# Altium footprint library Antennas.PcbLib: 43 footprints (part 3 of 3)
Each footprint in its own frame and in the unit in brackets; x right, y up, seen from the top. Pads: shape width x height; smd on the part's side, far side on the other; paste and mask are expansions set on the pad; w line width, h text height; cw(c..) or ccw(c..) is an arc to the next point about the centre after c.
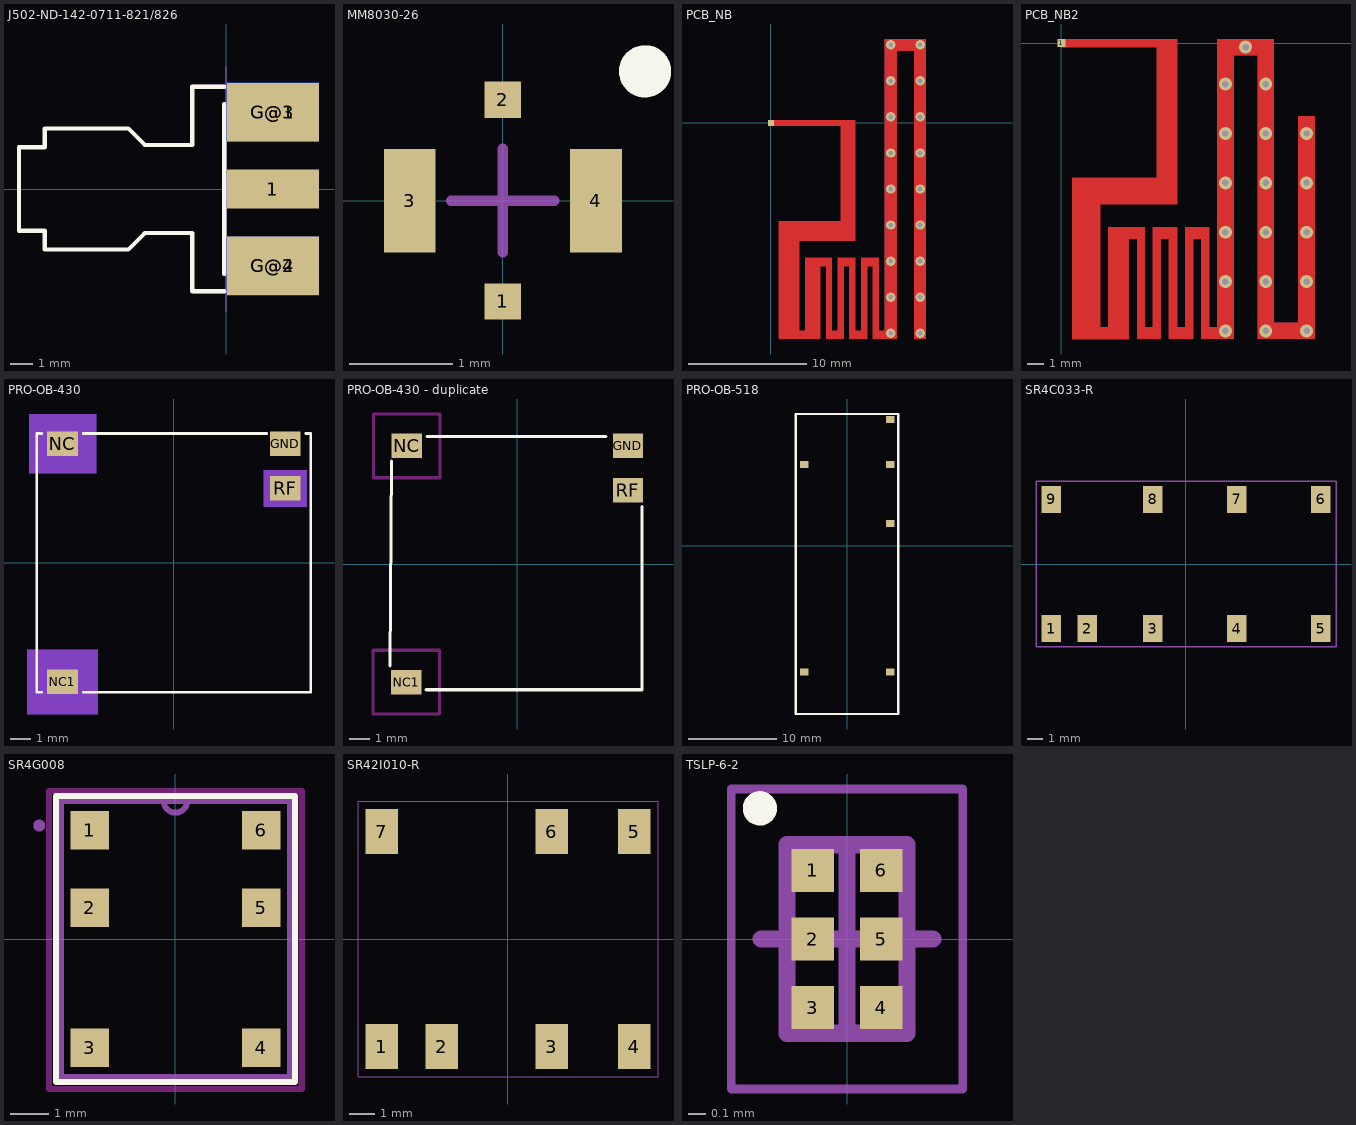
[diagram p2: the footprints below, top view; thin cyan lines are the x and y axes]

## J502-ND-142-0711-821/826 [mil]
pads (5):
  rect 165x70 smd: 1(83.28,0)
  rect 165x105 smd: G@1(83.28,137.58) G@2(83.28,-137.58)
  rect 165x105 smd far side: G@3(83.28,137.58) G@4(83.28,-137.58)
Top Overlay:
  lines w8: -3.94,-183.07 -61.02,-183.07 -61.02,-78.74 -145.67,-78.74 -175.2,-108.27 -324.8,-108.27 -324.8,-74.8 -371.06,-74.8 -371.06,74.8 -324.8,74.8 -324.8,108.27 -175.2,108.27 -145.67,78.74 -61.02,78.74 -61.02,183.07 -3.94,183.07 ; -3.94,-151.57 -3.94,151.57
Mechanical 1:
  lines w0: 0,-220 0,220
Mechanical 16:
  rectangle: -0.98,-19.69 159.45,19.69
  lines w8: -61.02,-183.07 161.42,-183.07 161.42,-151.57 -3.94,-151.57 ; -61.02,183.07 161.42,183.07 161.42,151.57 -3.94,151.57
3D body "User Library-Johnson Components SMA - 50 Ohm Connectors 142-0701-801.step": height 170.51, standoff -141.3, extent -391.91,-187 169.91,187.81

## MM8030-26 [mm]
pads (4):
  rect 0.35x0.35 smd: 1(0,-0.975) 2(0,0.975)
  rect 0.5x1 smd: 3(-0.9,0) 4(0.9,0)
Top Overlay:
  circle w0.254: c1.375,1.25 r0.125
Mechanical 15:
  lines w0.1: -0.5,0 0.5,0 ; 0,-0.5 0,0.5
3D body: height 0.9, standoff 0.01, extent -0.67,-0.674 0.675,0.674
3D body: height 0.45, standoff 0, extent -1,-1 1,1

## PCB_NB [mm]
pads (1):
  rect 0.5x0.5 smd mask+0.102: 1(0,0)
via 10.174,0.514 diameter 0.8 hole 0.4
via 10.178,-2.548 diameter 0.8 hole 0.4
via 10.178,-5.611 diameter 0.8 hole 0.4
via 10.174,-8.673 diameter 0.8 hole 0.4
via 10.178,-11.736 diameter 0.8 hole 0.4
via 10.178,-14.798 diameter 0.8 hole 0.4
via 10.178,-17.861 diameter 0.8 hole 0.4
via 10.174,6.639 diameter 0.8 hole 0.4
via 10.178,3.577 diameter 0.8 hole 0.4
via 12.678,3.577 diameter 0.8 hole 0.4
via 12.674,6.639 diameter 0.8 hole 0.4
via 12.678,-17.861 diameter 0.8 hole 0.4
via 12.678,-14.798 diameter 0.8 hole 0.4
via 12.678,-11.736 diameter 0.8 hole 0.4
via 12.674,-8.673 diameter 0.8 hole 0.4
via 12.678,-5.611 diameter 0.8 hole 0.4
via 12.678,-2.548 diameter 0.8 hole 0.4
via 12.674,0.514 diameter 0.8 hole 0.4
Top Layer:
  region: 0.674,-18.361 4.174,-18.361 4.174,-12.156 4.693,-12.156 4.693,-18.361 6.174,-18.361 6.174,-12.156 6.674,-12.156 6.674,-18.361 8.174,-18.361 8.174,-12.156 8.674,-12.156 8.674,-18.361 10.678,-18.361 10.678,6.139 12.178,6.139 12.178,-18.361 13.178,-18.361 13.178,7.139 9.678,7.139 9.678,-17.64 9.174,-17.64 9.174,-11.435 7.674,-11.435 7.674,-17.64 7.174,-17.64 7.174,-11.435 5.674,-11.435 5.674,-17.64 5.174,-17.64 5.174,-11.435 2.921,-11.435 2.921,-17.64 2.405,-17.64 2.405,-10.015 7.174,-10.015 7.174,0.25 0,0.25 0,-0.25 5.924,-0.25 5.924,-8.361 0.674,-8.361
Bottom Layer:
  region: 9.676,-18.361 10.679,-18.361 10.679,6.139 12.179,6.139 12.179,-18.361 13.179,-18.361 13.179,7.139 9.676,7.139

## PCB_NB2 [mm]
pads (1):
  rect 0.5x0.5 smd mask+0.102: 1(0,0)
via 15.207,-17.861 diameter 0.8 hole 0.4
via 15.207,-14.798 diameter 0.8 hole 0.4
via 15.207,-11.736 diameter 0.8 hole 0.4
via 15.204,-8.673 diameter 0.8 hole 0.4
via 15.207,-5.611 diameter 0.8 hole 0.4
via 12.678,-2.548 diameter 0.8 hole 0.4
via 12.678,-5.611 diameter 0.8 hole 0.4
via 12.674,-8.673 diameter 0.8 hole 0.4
via 12.678,-11.736 diameter 0.8 hole 0.4
via 12.678,-14.798 diameter 0.8 hole 0.4
via 12.678,-17.861 diameter 0.8 hole 0.4
via 11.429,-0.25 diameter 0.8 hole 0.4
via 10.178,-17.861 diameter 0.8 hole 0.4
via 10.178,-14.798 diameter 0.8 hole 0.4
via 10.178,-11.736 diameter 0.8 hole 0.4
via 10.174,-8.673 diameter 0.8 hole 0.4
via 10.178,-5.611 diameter 0.8 hole 0.4
via 10.178,-2.548 diameter 0.8 hole 0.4
Top Layer:
  region: 0.674,-18.361 4.174,-18.361 4.174,-12.156 4.693,-12.156 4.693,-18.361 6.174,-18.361 6.174,-12.156 6.674,-12.156 6.674,-18.361 8.174,-18.361 8.174,-12.156 8.674,-12.156 8.674,-18.361 10.678,-18.361 10.678,-0.762 12.178,-0.762 12.178,-18.361 15.708,-18.361 15.708,-4.557 14.708,-4.557 14.708,-17.348 13.178,-17.348 13.178,0.25 9.678,0.25 9.678,-17.64 9.174,-17.64 9.174,-11.435 7.674,-11.435 7.674,-17.64 7.174,-17.64 7.174,-11.435 5.674,-11.435 5.674,-17.64 5.174,-17.64 5.174,-11.435 2.921,-11.435 2.921,-17.64 2.405,-17.64 2.405,-10.015 7.174,-10.015 7.174,0.25 0,0.25 0,-0.25 5.924,-0.25 5.924,-8.361 0.674,-8.361
Bottom Layer:
  region: 9.676,-18.361 10.679,-18.361 10.679,-0.762 12.179,-0.762 12.179,-18.361 15.708,-18.361 15.708,-4.557 14.707,-4.557 14.707,-17.348 13.179,-17.348 13.179,0.25 9.676,0.25

## PRO-OB-430 [mm] "IC ANTENNA ONBOARD GPS SMD"
pads (4):
  rect 1.5x1.2 smd: GND(5.465,5.85) NC(-5.465,5.85) NC1(-5.465,-5.85) RF(5.465,3.65)
Bottom Layer keep-out:
  region: 4.413,2.751 4.413,4.551 6.523,4.551 6.523,2.751
  region: -7.197,-7.429 -7.197,-4.269 -3.737,-4.269 -3.737,-7.429
  region: -7.107,4.401 -7.107,7.301 -3.807,7.301 -3.807,4.401
Top Overlay:
  lines w0.127: -6.481,-6.358 -6.735,-6.358 -6.735,6.342 -6.481,6.342 ; -4.449,-6.358 6.727,-6.358 6.727,6.342 6.473,6.342 ; -4.449,6.342 4.568,6.342
3D body: height 3.33, standoff 3, extent -6.745,-6.367 6.803,6.383
3D body: height 3.33, standoff 2.5, extent 6.651,-6.367 6.803,2.44
3D body: height 3.33, standoff 2.5, extent -6.735,-6.342 -6.583,6.383
3D body: height 3.33, standoff 1.5, extent 6.651,3.507 6.803,6.314
3D body: height 3.33, standoff 1.5, extent -6.735,-6.342 -6.583,-4.558
3D body: height 3.33, standoff 0, extent -6.735,-6.342 -6.583,-5.44
3D body: height 3.33, standoff 0, extent -6.76,5.456 -6.608,6.358
3D body: height 3.33, standoff 1.5, extent -6.76,4.586 -6.608,6.371
3D body: height 3.33, standoff 0, extent 6.651,5.406 6.803,6.307
3D body: height 3.33, standoff 0, extent 6.651,3.501 6.803,4.402
3D body: height 0.1, standoff 0, extent 5.343,5.437 6.638,6.314
3D body: height 0.1, standoff 0, extent 5.368,3.532 6.663,4.409
3D body: height 0.1, standoff 0, extent -6.595,5.488 -5.3,6.364
3D body: height 0.1, standoff 0, extent -6.57,-6.323 -5.275,-5.447

## PRO-OB-430 - duplicate [mm]
pads (4):
  rect 1.5x1.2 smd: GND(5.478,5.838) NC(-5.452,5.838) NC1(-5.477,-5.837) RF(5.478,3.638)
Top Overlay:
  lines w0.15: -6.275,-5.04 -6.2,5.085 ; -4.5,-6.215 6.18,-6.215 6.18,2.835 ; -4.45,6.31 4.4,6.31
Keep-Out Layer:
  lines w0.15: -7.127,-7.412 -3.827,-7.412 -3.827,-4.263 -7.127,-4.263 -7.127,-7.412 ; -7.102,4.263 -3.802,4.263 -3.802,7.412 -7.102,7.412 -7.102,4.263
3D body "User Library-PRO-OB-430.STEP": height 3.31, standoff 0.01, extent -6.062,-6.312 6.368,6.188

## PRO-OB-518 [mm] "Onboard™ SMD 868/2400 MHz Antenna"
pads (6):
  rect 0.96x0.8 smd: 1(4.864,14.3) 2(4.864,9.2) 3(-4.864,9.2) 4(-4.864,-14.3) 5(4.864,-14.3) 6(4.864,2.5)
Top Overlay:
  lines w0.254: -5.829,-19.065 5.771,-19.065 5.771,14.935 -5.829,14.935 -5.829,-19.065
3D body: height 0.1, standoff 0, extent 4.369,13.81 5.664,14.801
3D body: height 0.1, standoff 0, extent 4.369,8.705 5.664,9.695
3D body: height 0.1, standoff 0, extent 4.369,1.999 5.664,2.99
3D body: height 0.1, standoff 0, extent 4.382,-14.803 5.677,-13.812
3D body: height 0.1, standoff 0, extent -5.791,-14.816 -4.496,-13.825
3D body: height 0.1, standoff 0, extent -5.702,8.717 -4.407,9.708
3D body: height 4.93, standoff 0, extent 5.652,13.797 5.804,14.788
3D body: height 4.93, standoff 0, extent 5.652,8.717 5.804,9.708
3D body: height 4.93, standoff 0, extent 5.652,2.012 5.804,3.002
3D body: height 4.93, standoff 0, extent 5.677,-14.803 5.829,-13.812
3D body: height 4.93, standoff 0, extent -5.931,-14.803 -5.779,-13.812
3D body: height 4.93, standoff 0, extent -5.855,8.717 -5.702,9.708
3D body: height 4.93, standoff 2.5, extent -5.931,-19.096 -5.779,-12.746
3D body: height 4.93, standoff 4.8, extent -5.855,-19.096 5.753,14.864
3D body: height 4.93, standoff 2.5, extent 5.652,-19.172 5.804,14.839
3D body: height 4.93, standoff 2.5, extent -5.88,-10.663 -5.728,14.839

## SR4C033-R [mm]
pads (9):
  rect 1.3x1.8 smd: 1(-9,-4.3) 2(-6.6,-4.3) 3(-2.2,-4.3) 4(3.4,-4.3) 5(9,-4.3) 6(9,4.3) 7(3.4,4.3) 8(-2.2,4.3) 9(-9,4.3)
Mechanical 2:
  lines w0.1: -10,-5.5 10,-5.5 10,5.5 -10,5.5 -10,-5.5
3D body "SR4C033_3D.step": height 1.7, standoff 0.01, extent -9.982,-5.486 10.018,5.514

## SR4G008 [mil]
pads (6):
  rect 39x39 smd: 1(-87,110.24) 2(-87,31.5) 3(-87,-110.24) 4(87,-110.24) 5(87,31.5) 6(87,110.24)
Top Overlay:
  lines w6: -121,-145 121,-145 121,145 -121,145 -121,-145
Keep-Out Layer:
  lines w6.3: -128,-152 128,-152 128,150 -128,150 -128,-152
Mechanical 16:
  lines w6: -12,140 ccw(c0,140) 12,140 ; -12,140 12,140 ; -12,140 -116,140 -116,-140 116,-140 116,140 12,140 ; -141,115 ccw(c-138,115) -135,115 ccw(c-138,115) -141,115
3D body: height 19.68, standoff 3.94, extent -102.61,94.53 -71.24,125.96
3D body "final antenna model.STEP": height 22.91, standoff 0.5, extent -114.17,-137.59 114.17,138

## SR42I010-R [mm] "863-870 & 902-928MHz Right Antenna"
pads (7):
  rect 1.3x1.8 smd: 1(-5.05,-4.3) 2(-2.65,-4.3) 3(1.75,-4.3) 4(5.05,-4.3) 5(5.05,4.3) 6(1.75,4.3) 7(-5.05,4.3)
Mechanical 2:
  lines w0.05: -6,-5.5 -6,5.5 6,5.5 6,-5.5 -6,-5.5
3D body "SR42I010 - Grandis.step": height 1.7, standoff 0.01, extent -5.994,-5.486 6.006,5.514

## TSLP-6-2 [mm] "TSLP 6-Leads, Body 0,70x1,10mm, Pitch 0,40mm, IPC High Density"
height 0.39
pads (6):
  rect 0.25x0.25 smd: 1(-0.2,0.4) 2(-0.2,0) 3(-0.2,-0.4) 4(0.2,-0.4) 5(0.2,0) 6(0.2,0.4)
Top Overlay:
  circle w0.1: c-0.508,0.762 r0.05
Mechanical 13:
  lines w0.1: -0.35,-0.55 -0.35,0.55 0.35,0.55 0.35,-0.55 -0.35,-0.55
Mechanical 15:
  lines w0.05: -0.675,-0.875 -0.675,0.875 0.675,0.875 0.675,-0.875 -0.675,-0.875
  lines w0.1: -0.5,0 0.5,0 ; 0,-0.5 0,0.5
3D body "TSLP-6-2.step": height 0.39, standoff 0, extent -0.351,-0.55 0.351,0.55